# EAGLE library part TLV3501 (library AU_Thinsat_Comparators)
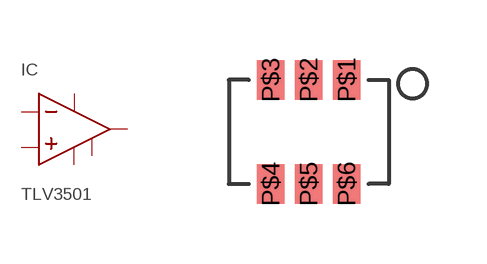
[diagram p0: symbol with the pads of SOT23-6; footprint SOT23-6]

Designator prefix IC

## TLV3501  [SOT23-6]
P$1  IN-
P$2  V-
P$3  IN+
P$4  V+
P$5  OUT
P$6  SHDN

## Footprint SOT23-6 (pad centres in mm)
smd 0.69 x 0.99: P$1 0.95,1.3; P$2 0,1.3; P$3 -0.95,1.3; P$4 -0.95,-1.3; P$5 0,-1.3; P$6 0.95,-1.3